# EAGLE library part MC7940 (library nixe_cmp)
RTC module with optional battery backup BEWARE: M version of the part does have battery bakub, but N part DOES NOT have battery backup! Datasheet: http://ww1.microchip.com/downloads/en/DeviceDoc/20002292B.pdf
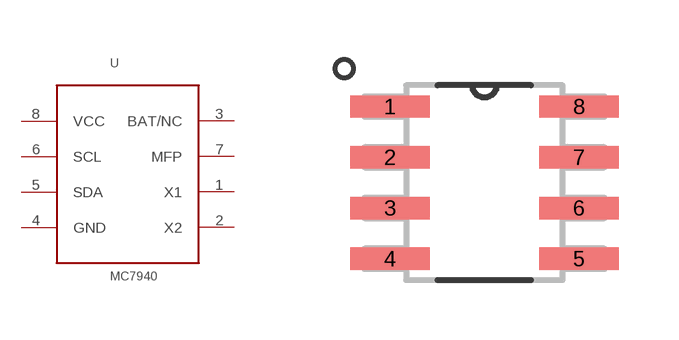
[diagram p0: symbol with the pads of SOIC8-N_MC; footprint SOIC8-N_MC]

Designator prefix U

## MC7940, MC7940M (HAS_BATT: NO; VCC: 1.8-5.5V), MC7940N (HAS_BATT: YES; VCC: 1.8-5.5V)  [SOIC8-N_MC]
1  X1
2  X2
3  BAT/NC
4  GND
5  SDA
6  SCL
7  MFP
8  VCC

## Footprint SOIC8-N_MC (pad centres in mm)
smd 1.981 x 0.559: 1 -2.362,1.905; 2 -2.362,0.635; 3 -2.362,-0.635; 4 -2.362,-1.905; 5 2.362,-1.905; 6 2.362,-0.635; 7 2.362,0.635; 8 2.362,1.905